# EAGLE library part LED-RGB (library modules)
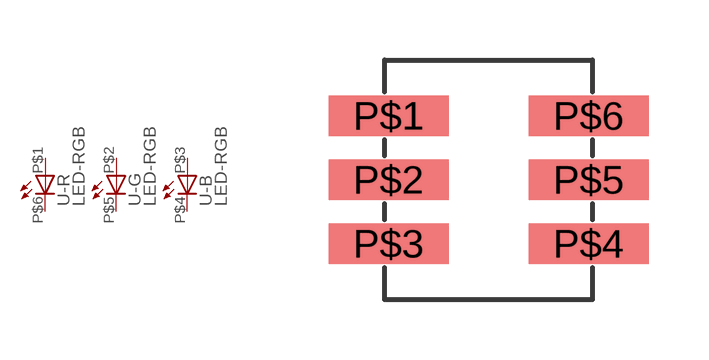
[diagram p3: symbol with the pads of PLCC6; footprint PLCC6]

Designator prefix -; gates -R=LED -G=LED -B=LED

## LED-RGBSMD  [PLCC6]
P$1  -R:A  pas
P$2  -G:A  pas
P$3  -B:A  pas
P$4  -B:C  pas
P$5  -G:C  pas
P$6  -R:C  pas

## Footprint PLCC6 (pad centres in mm)
smd 3 x 1.016: P$1 -2.5,1.6; P$2 -2.5,0; P$3 -2.5,-1.6; P$4 2.5,-1.6; P$5 2.5,0; P$6 2.5,1.6